# Altium footprint library inductors_chip.PcbLib: 3 footprints
Each footprint in its own frame and in the unit in brackets; x right, y up, seen from the top. Pads: shape width x height; smd on the part's side, far side on the other; paste and mask are expansions set on the pad; w line width, h text height; cw(c..) or ccw(c..) is an arc to the next point about the centre after c.
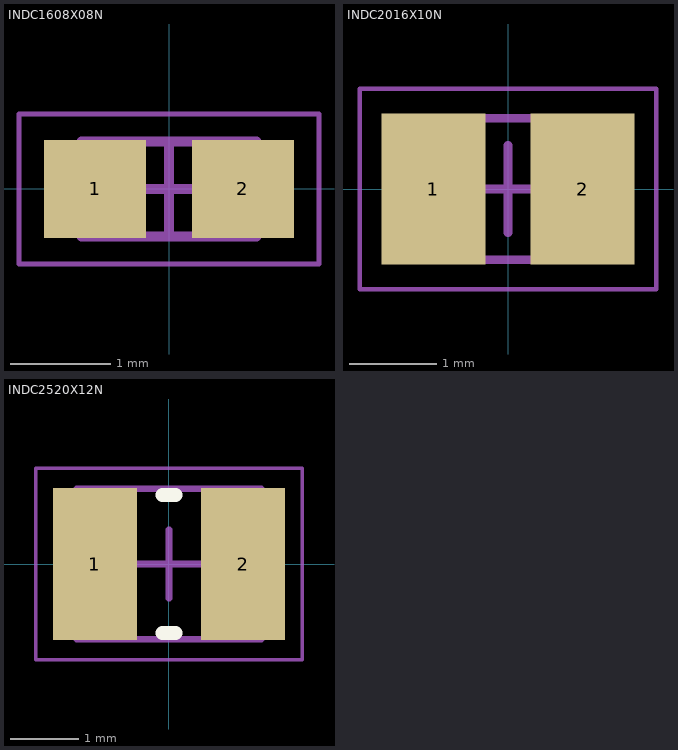
[diagram p0: the footprints below, top view; thin cyan lines are the x and y axes]

## INDC1608X08N [mm] "Chip Inductor, 2-Leads, Body 1,60x0,80mm, IPC Medium Density"
height 0.8
pads (2):
  rect 1.02x0.98 smd: 1(-0.74,0) 2(0.74,0)
Mechanical 13:
  lines w0.1: -0.875,-0.475 -0.875,0.475 0.875,0.475 0.875,-0.475 -0.875,-0.475
Mechanical 15:
  lines w0.05: -1.5,-0.75 -1.5,0.75 1.5,0.75 1.5,-0.75 -1.5,-0.75
  lines w0.1: -0.475,0 0.475,0 ; 0,-0.475 0,0.475
3D body "INDC1608X08N.step": height 0.8, standoff 0, extent -0.875,-0.475 0.875,0.475

## INDC2016X10N [mm] "Chip Inductor, 2-Leads, Body 2,00x1,60mm, IPC Medium Density"
height 1
pads (2):
  rect 1.19x1.73 smd: 1(-0.855,0) 2(0.855,0)
Mechanical 13:
  lines w0.1: -1.1,-0.81 1.1,-0.81 1.1,0.81 -1.1,0.81 -1.1,-0.81
Mechanical 15:
  lines w0.05: -1.7,-1.15 1.7,-1.15 1.7,1.15 -1.7,1.15 -1.7,-1.15
  lines w0.1: -0.5,0 0.5,0 ; 0,-0.5 0,0.5
3D body "INDC2016X10N.step": height 1, standoff 0, extent -1.1,-0.81 1.1,0.81

## INDC2520X12N [mm] "Chip Inductor, 2-Leads, Body 2,50x2,00mm, IPC Medium Density"
height 1.2
pads (2):
  rect 1.23x2.22 smd: 1(-1.085,0) 2(1.085,0)
Top Overlay:
  lines w0.2: -0.1,-1.01 0.1,-1.01 ; -0.1,1.01 0.1,1.01
Mechanical 13:
  lines w0.1: -1.35,-1.1 1.35,-1.1 1.35,1.1 -1.35,1.1 -1.35,-1.1
Mechanical 15:
  lines w0.05: -1.95,-1.4 1.95,-1.4 1.95,1.4 -1.95,1.4 -1.95,-1.4
  lines w0.1: -0.5,0 0.5,0 ; 0,-0.5 0,0.5
3D body "INDC2520X12N.step": height 1.2, standoff 0, extent -1.35,-1.1 1.35,1.1